# Altium integrated library DIOM5436X261N.IntLib: 1 symbol
Pins are listed as number, name and electrical type; pins without a type are passive.

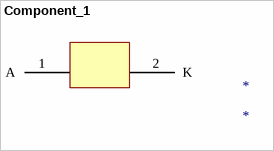
[diagram p0: symbol Component_1]

## Component_1
designator *
footprint *DIOM5436X261N
pins: 1 A, 2 K